# EAGLE library part AS-ITM-00073 (library tinycircuits)
TI 2-Bit Bidirectional Voltage-Level Translator
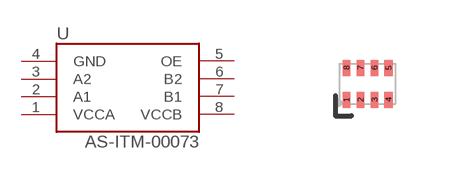
[diagram p26: symbol with the pads of DQE(R-PX2SON-N8); footprint DQE(R-PX2SON-N8)]

Designator prefix U

## AS-ITM-00073 (PARTNO: AS-ITM-00073; VALUE: TXS0102)  [DQE(R-PX2SON-N8)]
1  VCCA
2  A1
3  A2
4  GND
5  OE
6  B2
7  B1
8  VCCB

## Footprint DQE(R-PX2SON-N8) (pad centres in mm)
smd 0.2 x 0.4: 1 -0.525,-0.4; 2 -0.175,-0.4; 3 0.175,-0.4; 4 0.525,-0.4; 5 0.525,0.4; 6 0.175,0.4; 7 -0.175,0.4; 8 -0.525,0.4